# Altium schematic symbol library U_BQ27541.Schlib: 1 symbol
Pins are listed as number, name and electrical type; pins without a type are passive.

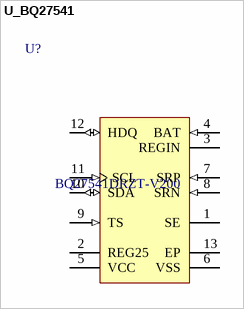
[diagram p0: symbol U_BQ27541]

## U_BQ27541
designator U?, comment BQ27541DRZT-V200
Single Cell Li-Ion Battery Fuel Gauge
pins: 1 SE (hiz) "Shutdown Enable output. Push-pull output.", 2 REG25 (power) "2.5V output voltage of the internal integrated LDO. Connect a minimum 0.47uF ceramic capacitor.", 3 REGIN (power) "The input voltage for the internal integrated LDO. Connect a 0.1uF ceramic capacitor.", 4 BAT (in) "Cell-voltage measurement input. ADC input. Decouple with 0.1uF capacitor.", 5 VCC (power) "Processor power input. The minimum 0.47uF capacitor connected to REG25 should be close to Vcc.", 6 VSS (power) "Device ground", 7 SRP (in) "Analog input pin connected to the internal coulomb counter where SRP is nearest the CELL- connection.Connect to 5-mohm to 20-mohm sense resistor", 8 SRN (in) "Analog input pin connected to the internal coulomb counter where SRN is nearest the PACK- connection.Connect to 5-mohm to 20-mohm sense resistor.", 9 TS (in) "Pack thermistor voltage sense (use 103AT-type thermistor). ADC input", 10 SDA (io) "Slave I2C serial communications data line for communication with system (Slave). Open-drain I/O. Use with 10k ohm pull-up resistor (typical).", 11 SCL (in) "Slave I2C serial communications clock input line for communication with system (Slave). Use with 10k ohm pull-up resistor (typical).", 12 HDQ (io) "HDQ serial communications line (Slave). Open-drain.", 13 EP "Exposed pad"
1 alternate drawing of the same symbol